# Altium schematic symbol library Comparator.SchLib: 1 symbol
Pins are listed as number, name and electrical type; pins without a type are passive.

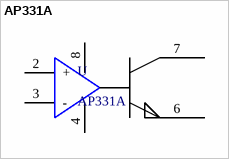
[diagram p0: symbol AP331A]

## AP331A
designator U
Single Channel Comparator, Open Drain, SC-74A/SOT-753; Supplier 1: Digikey; Supplier Part Number 1: AP331AWGDICT-ND
footprint SOT95P285X130-5N (SOT23, 5-Leads, Body 3.00x2.85mm, Pitch 0.95mm, IPC Medium Density)
pins: 2 + "VIN+", 3 - "VIN-", 4 GND, 6 10, 7 9, 8 VCC